# Altium footprint library BATTERY.PcbLib: 2 footprints
Each footprint in its own frame and in the unit in brackets; x right, y up, seen from the top. Pads: shape width x height; smd on the part's side, far side on the other; paste and mask are expansions set on the pad; w line width, h text height; cw(c..) or ccw(c..) is an arc to the next point about the centre after c.
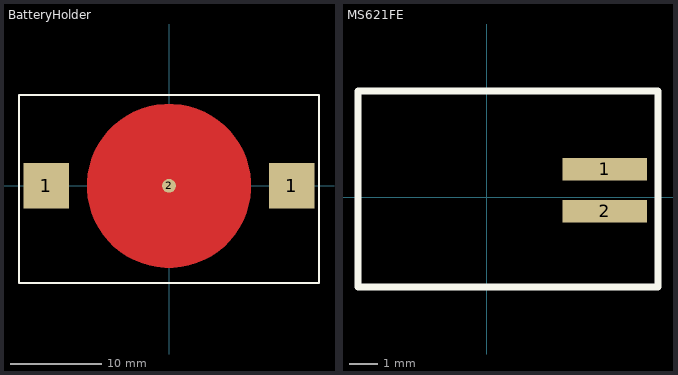
[diagram p0: the footprints below, top view; thin cyan lines are the x and y axes]

## BatteryHolder [mm]
pads (3):
  rect 5x5 smd: 1(-13.5,0) 1(13.5,0)
  round 1.524 smd: 2(0,0)
Top Layer:
  region: 0,-9 -0.442,-9 -1.322,-8.913 -2.189,-8.741 -3.036,-8.484 -3.853,-8.146 -4.633,-7.729 -5.368,-7.238 -6.051,-6.677 -6.677,-6.051 -7.238,-5.368 -7.729,-4.633 -8.146,-3.853 -8.484,-3.036 -8.741,-2.189 -8.913,-1.322 -9,-0.442 -9,0 -9,0.442 -8.913,1.322 -8.741,2.189 -8.484,3.036 -8.146,3.853 -7.729,4.633 -7.238,5.368 -6.677,6.051 -6.051,6.677 -5.368,7.238 -4.633,7.729 -3.853,8.146 -3.036,8.484 -2.189,8.741 -1.322,8.913 -0.442,9 0,9 0.442,9 1.322,8.913 2.189,8.741 3.036,8.484 3.853,8.146 4.633,7.729 5.368,7.238 6.051,6.677 6.677,6.051 7.238,5.368 7.729,4.633 8.146,3.853 8.484,3.036 8.741,2.189 8.913,1.322 9,0.442 9,0 9,-0.442 8.913,-1.322 8.741,-2.189 8.484,-3.036 8.146,-3.853 7.729,-4.633 7.238,-5.368 6.677,-6.051 6.051,-6.677 5.368,-7.238 4.633,-7.729 3.853,-8.146 3.036,-8.484 2.189,-8.741 1.322,-8.913 0.442,-9
Top Overlay:
  lines w0.2: -16.5,-10.7 16.5,-10.7 16.5,10 -16.5,10 -16.5,-10.7
3D body "BatteryHolder.step": height 3.96, standoff 0, extent -15.367,-10.274 15.367,9.779

## MS621FE [mm]
pads (2):
  rect 3x0.8 smd: 1(4.2,1) 2(4.2,-0.5)
Top Overlay:
  lines w0.254: -4.6,-3.2 -4.6,3.8 6.1,3.8 6.1,3.7 6.1,-3.2 -4.6,-3.2
3D body "User Library-ms621fe.STEP": height 2.75, standoff 0.05, extent -4.428,-3.116 4.872,3.684